# EAGLE library part 62674-201121ALF (library 20pin_ffc_connector)
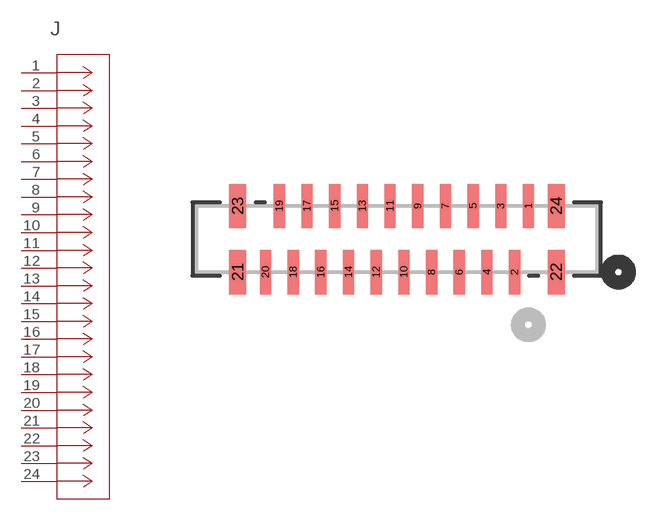
[diagram p0: symbol with the pads of CON20_1X20_DUT_58XF; footprint CON20_1X20_DUT_58XF]

Designator prefix J

## 62674-201121ALF (MANUFACTURER_PART_NUMBER: 62674201121ALF; VENDOR: FCI)  [CON20_1X20_DUT_58XF]
1  11  pas
2  22  pas
3  33  pas
4  44  pas
5  55  pas
6  66  pas
7  77  pas
8  88  pas
9  99  pas
10  1010  pas
11  1111  pas
12  1212  pas
13  1313  pas
14  1414  pas
15  1515  pas
16  1616  pas
17  1717  pas
18  1818  pas
19  1919  pas
20  2020  pas
21  2121  pas
22  2222  pas
23  2323  pas
24  2424  pas

## Footprint CON20_1X20_DUT_58XF (pad centres in mm)
smd 0.406 x 1.6: 1 0,4.775; 2 -0.5,2.388; 3 -1,4.775; 4 -1.5,2.388; 5 -2,4.775; 6 -2.5,2.388; 7 -3,4.775; 8 -3.5,2.388; 9 -4,4.775; 10 -4.5,2.388; 11 -5,4.775; 12 -5.5,2.388; 13 -6,4.775; 14 -6.5,2.388; 15 -7,4.775; 16 -7.5,2.388; 17 -8,4.775; 18 -8.5,2.388; 19 -9,4.775; 20 -9.5,2.388
smd 0.61 x 1.6: 21 -10.503,2.388; 22 1.003,2.388; 23 -10.503,4.775; 24 1.003,4.775